# Altium footprint library PCB11.PcbLib: 29 footprints (part 1 of 2)
Each footprint in its own frame and in the unit in brackets; x right, y up, seen from the top. Pads: shape width x height; smd on the part's side, far side on the other; paste and mask are expansions set on the pad; w line width, h text height; cw(c..) or ccw(c..) is an arc to the next point about the centre after c.
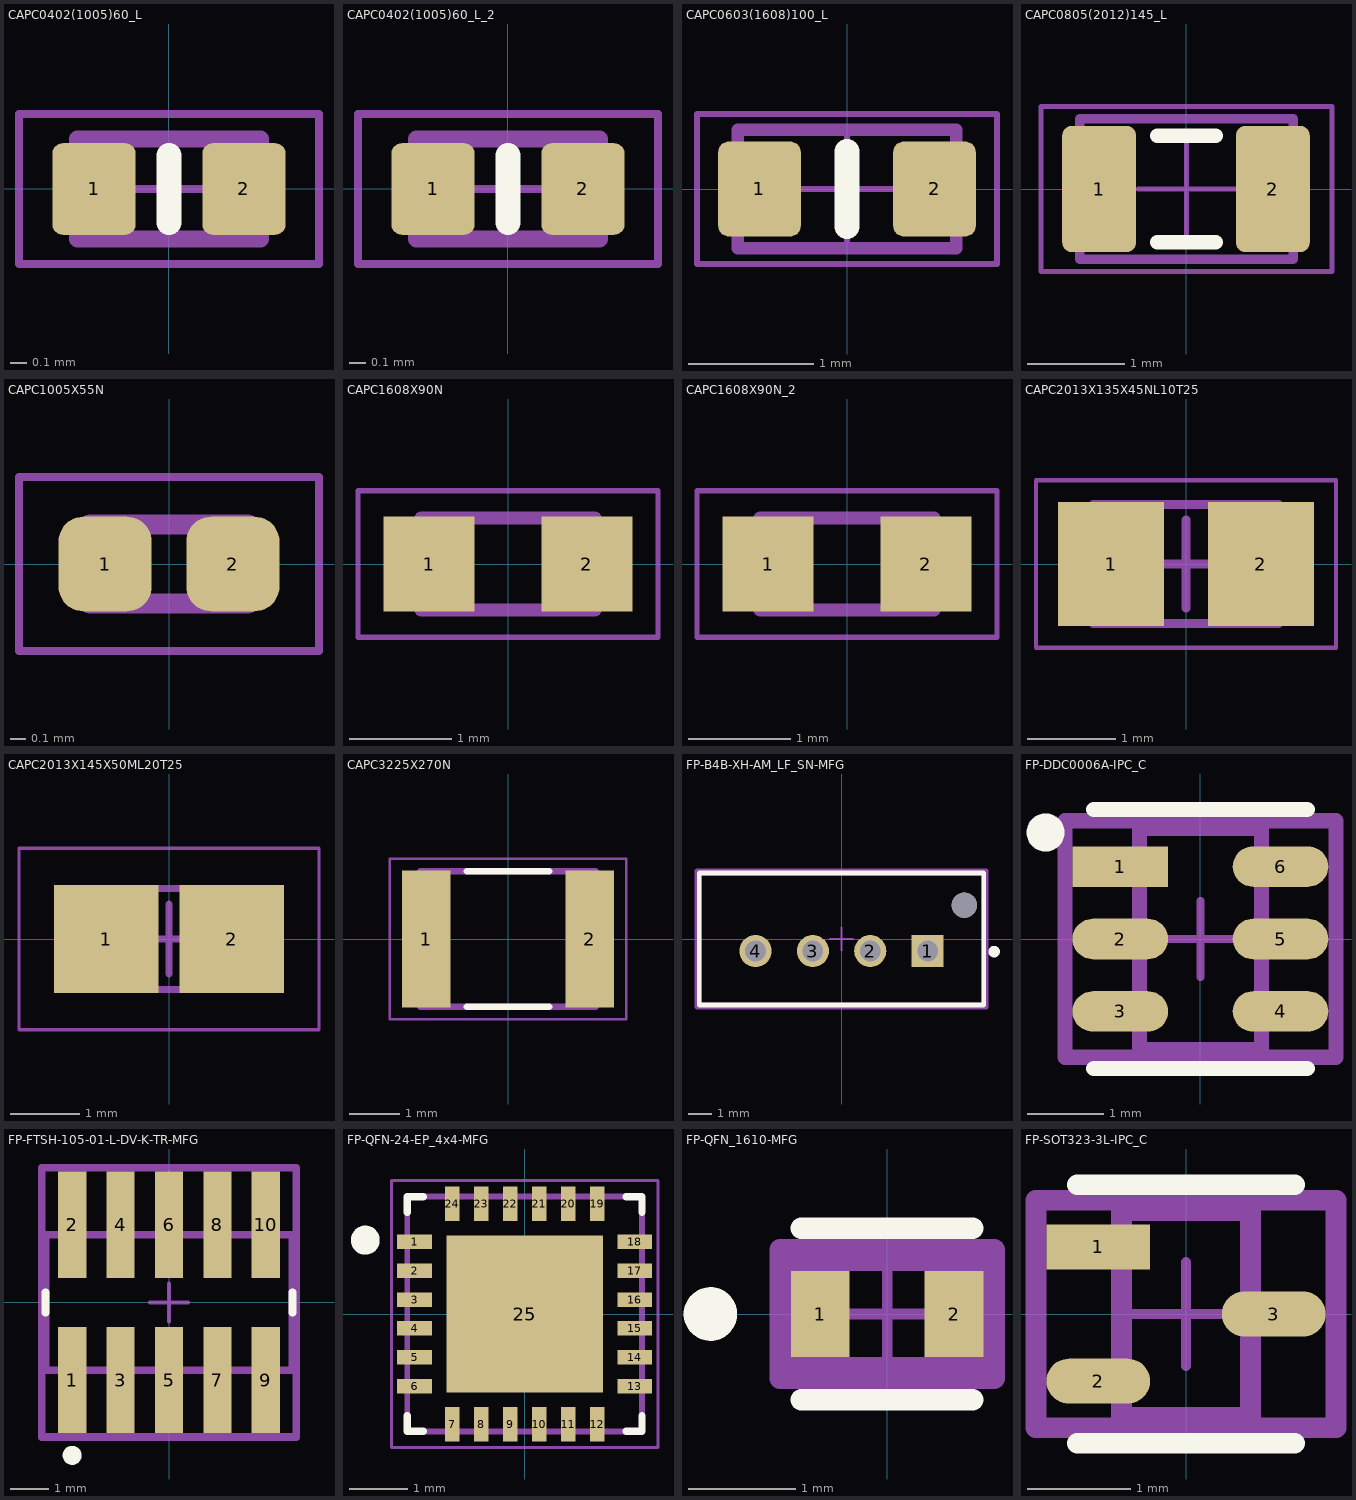
[diagram p0: the footprints below, top view; thin cyan lines are the x and y axes]

## CAPC0402(1005)60_L [mm] "Chip Capacitor, Body 1.0x0.5mm, Height 0.6mm, IPC High Density"
height 0.6
pads (2):
  rrect25% 0.5x0.55 smd: 1(-0.45,0) 2(0.45,0)
Top Overlay:
  lines w0.15: 0,-0.2 0,0.2
Top Assembly:
  lines w0.1: -0.55,-0.3 -0.55,0.3 0.55,0.3 0.55,-0.3 -0.55,-0.3
Top Courtyard:
  lines w0.05: -0.275,0 0.275,0 ; 0,-0.275 0,0.275 ; -0.9,-0.45 0.9,-0.45 0.9,0.45 -0.9,0.45 -0.9,-0.45
Top Designator:
  text ".Designator" at -1.27,-0.127 h0.6
3D body "CAPC1005X60N EIA 0402.STEP": height 0.6, standoff 0, extent -0.5,-0.25 0.5,0.25

## CAPC0402(1005)60_L_2 [mm]
pads (2):
  rrect25% 0.5x0.55 smd: 1(-0.45,0) 2(0.45,0)
Top Overlay:
  lines w0.15: 0,-0.2 0,0.2
Top Assembly:
  lines w0.1: -0.55,-0.3 0.55,-0.3 0.55,0.3 -0.55,0.3 -0.55,-0.3
Top Courtyard:
  lines w0.05: -0.275,0 0.275,0 ; 0,-0.275 0,0.275 ; -0.9,-0.45 -0.9,0.45 0.9,0.45 0.9,-0.45 -0.9,-0.45
Top Designator:
  text ".Designator" at -1.27,-0.127 h0.6
3D body "CAPC1005X60N EIA 0402.STEP": height 0.6, standoff 0, extent -0.5,-0.25 0.5,0.25

## CAPC0603(1608)100_L [mm] "Chip Capacitor, Body 1.6x0.8mm, Height 1.0mm, IPC High Density"
height 1
pads (2):
  rrect25% 0.66x0.76 smd: 1(-0.7,0) 2(0.7,0)
Top Overlay:
  lines w0.2: 0,-0.3 0,0.3
Top Assembly:
  lines w0.1: -0.875,-0.475 0.875,-0.475 0.875,0.475 -0.875,0.475 -0.875,-0.475
Top Courtyard:
  lines w0.05: -0.475,0 0.475,0 ; 0,-0.475 0,0.475 ; -1.2,-0.6 -1.2,0.6 1.2,0.6 1.2,-0.6 -1.2,-0.6
Top Designator:
  text ".Designator" at -1.27,-0.127 h0.6
3D body "CAPC1608X95N EIA 0603.STEP": height 0.95, standoff 0, extent -0.8,-0.4 0.8,0.4

## CAPC0805(2012)145_L [mm] "Chip Capacitor, Body 2.0x1.2mm, Height 1.45mm, IPC High Density"
height 1.45
pads (2):
  rrect25% 0.76x1.3 smd: 1(-0.9,0) 2(0.89,0)
Top Overlay:
  lines w0.15: -0.3,-0.55 0.3,-0.55 ; -0.3,0.55 0.3,0.55
Top Assembly:
  lines w0.1: -1.1,-0.725 -1.1,0.725 1.1,0.725 1.1,-0.725 -1.1,-0.725
Top Courtyard:
  lines w0.05: -0.5,0 0.5,0 ; 0,-0.5 0,0.5 ; -1.5,-0.85 1.5,-0.85 1.5,0.85 -1.5,0.85 -1.5,-0.85
Top Designator:
  text ".Designator" at -1.27,-0.127 h0.6
3D body "CAPC2012X145N EIA 0805.STEP": height 1.45, standoff 0, extent -1,-0.6 1,0.6

## CAPC1005X55N [mm]
height 0.55
pads (2):
  rrect53% 0.59x0.6 smd: 1(-0.405,0) 2(0.405,0)
Top 3D Body:
  lines w0.127: -0.5,-0.25 -0.5,0.25 0.5,0.25 0.5,-0.25 -0.5,-0.25
Mechanical 15:
  lines w0.05: -0.95,-0.55 -0.95,0.55 0.95,0.55 0.95,-0.55 -0.95,-0.55
3D body "step_temp.STEP": height 0.55, standoff 0, extent -0.5,-0.25 0.5,0.25

## CAPC1608X90N [mm]
pads (2):
  rect 0.89x0.93 smd: 1(-0.77,0) 2(0.77,0)
Top 3D Body:
  lines w0.127: -0.85,-0.45 -0.85,0.45 0.85,0.45 0.85,-0.45 -0.85,-0.45
Mechanical 15:
  lines w0.05: -1.465,-0.715 -1.465,0.715 1.465,0.715 1.465,-0.715 -1.465,-0.715
3D body "step_temp.STEP": height 0.9, standoff 0, extent -0.8,-0.4 0.8,0.4

## CAPC1608X90N_2 [mm]
pads (2):
  rect 0.89x0.93 smd: 1(-0.77,0) 2(0.77,0)
Top 3D Body:
  lines w0.127: -0.85,-0.45 0.85,-0.45 0.85,0.45 -0.85,0.45 -0.85,-0.45
Mechanical 15:
  lines w0.05: -1.465,-0.715 1.465,-0.715 1.465,0.715 -1.465,0.715 -1.465,-0.715
3D body "step_temp.STEP": height 0.9, standoff 0, extent -0.8,-0.4 0.8,0.4

## CAPC2013X135X45NL10T25 [mm] "Chip Capacitor, 2-Leads, Body 2.10x1.35mm, IPC Medium Density"
height 1.35
pads (2):
  rect 1.2x1.4 smd: 1(-0.85,0) 2(0.85,0)
Top 3D Body:
  lines w0.1: -1.05,-0.675 -1.05,0.675 1.05,0.675 1.05,-0.675 -1.05,-0.675
Mechanical 15:
  lines w0.05: -1.7,-0.95 -1.7,0.95 1.7,0.95 1.7,-0.95 -1.7,-0.95
  lines w0.1: -0.5,0 0.5,0 ; 0,-0.5 0,0.5
3D body "CAPC2012X14N.step": height 1.35, standoff 0, extent -1.05,-0.675 1.05,0.675

## CAPC2013X145X50ML20T25 [mm] "Chip Capacitor, 2-Leads, Body 2.2x1.45mm, IPC Low Density"
height 1.45
pads (2):
  rect 1.5x1.55 smd: 1(-0.9,0) 2(0.9,0)
Top 3D Body:
  lines w0.1: -1.1,-0.725 -1.1,0.725 1.1,0.725 1.1,-0.725 -1.1,-0.725
Mechanical 15:
  lines w0.05: -2.15,-1.3 -2.15,1.3 2.15,1.3 2.15,-1.3 -2.15,-1.3
  lines w0.1: -0.5,0 0.5,0 ; 0,-0.5 0,0.5
3D body "CAPC2012X14L.step": height 1.45, standoff 0, extent -1.1,-0.725 1.1,0.725

## CAPC3225X270N [mm]
pads (2):
  rect 0.96x2.72 smd: 1(-1.625,0) 2(1.625,0)
Top Overlay:
  lines w0.127: -0.82,-1.35 0.82,-1.35 ; -0.82,1.35 0.82,1.35
Top 3D Body:
  lines w0.127: -1.75,-1.35 1.75,-1.35 1.75,1.35 -1.75,1.35 -1.75,-1.35
Mechanical 15:
  lines w0.05: -2.355,-1.6 2.355,-1.6 2.355,1.6 -2.355,1.6 -2.355,-1.6
3D body "step_temp.STEP": height 2.7, standoff 0, extent -1.6,-1.25 1.6,1.25

## FP-B4B-XH-AM_LF_SN-MFG [mm]
pads (5):
  rect 1.4x1.4 hole 0.9 paste-2539.97 mask+0: 1(3.75,-0.525)
  round 1.4 hole 0.9 paste-2539.97 mask+0: 2(1.25,-0.525) 3(-1.25,-0.525) 4(-3.75,-0.525)
  round 1.1 hole 1.1 unplated paste-2539.97 mask+0: ""(5.35,1.475)
Top Overlay:
  circle w0.25: c6.65,-0.55 r0.125
  lines w0.2: -6.2,-2.875 -6.2,2.875 6.2,2.875 6.2,-2.875 -6.2,-2.875
Top Assembly:
  lines w0.2: -6.3,-2.975 -6.3,2.975 6.3,2.975 6.3,-2.975 -6.3,-2.975
  text ".Designator" at 0,0.187 h1
Top Courtyard:
  lines w0.2: -6.3,-2.975 -6.3,2.975 6.3,2.975 6.3,-2.975 -6.3,-2.975
Top 3D Body:
  lines w0.2: -6.2,-2.875 -6.2,2.875 6.2,2.875 6.2,-2.875 -6.2,-2.875
Top Component Center:
  lines w0.1: -0.5,0 0.5,0 ; 0,-0.5 0,0.5
3D body "Conn_JST_B4B-XH-AM_LF_SN_eec.STEP": height 0.25, standoff 0, extent -6.3,-2.975 6.3,2.975

## FP-DDC0006A-IPC_C [mm]
pads (6):
  rect 1.254x0.532 smd paste+0 mask+0: 1(-1.05,0.95)
  rrect100% 1.254x0.532 smd paste+0 mask+0: 2(-1.05,0) 3(-1.05,-0.95) 4(1.05,-0.95) 5(1.05,0) 6(1.05,0.95)
Top Overlay:
  circle w0.25: c-2.032,1.397 r0.125
  lines w0.2: -1.4,-1.7 1.4,-1.7 ; -1.4,1.7 1.4,1.7
Top Assembly:
  lines w0.2: -1.777,-1.55 -1.777,1.55 1.777,1.55 1.777,-1.55 -1.777,-1.55
  text ".Designator" at 0,0.188 h1
Top Courtyard:
  lines w0.2: -1.777,-1.55 -1.777,1.55 1.777,1.55 1.777,-1.55 -1.777,-1.55
Top 3D Body:
  lines w0.2: -0.8,-1.45 -0.8,1.45 0.8,1.45 0.8,-1.45 -0.8,-1.45
Top Component Center:
  lines w0.1: -0.5,0 0.5,0 ; 0,-0.5 0,0.5
3D body "IC_Texas_Instruments_TPS562201DDCT_eec.STEP": height 0.25, standoff 0, extent -1.777,-1.55 1.777,1.55

## FP-FTSH-105-01-L-DV-K-TR-MFG [mm]
pads (10):
  rect 0.74x2.79 smd paste+0 mask+0: 1(-2.54,-2.035) 2(-2.54,2.035) 3(-1.27,-2.035) 4(-1.27,2.035) 5(0,-2.035) 6(0,2.035) 7(1.27,-2.035) 8(1.27,2.035) 9(2.54,-2.035) 10(2.54,2.035)
Top Overlay:
  circle w0.25: c-2.54,-4.01 r0.125
  lines w0.2: -3.24,-0.265 -3.24,0.265 ; 3.24,-0.265 3.24,0.265
Top Assembly:
  lines w0.2: -3.34,-3.53 3.34,-3.53 3.34,3.53 -3.34,3.53 -3.34,-3.53
  text ".Designator" at 0,-0.001 h1
Top Courtyard:
  lines w0.2: -3.34,-3.53 3.34,-3.53 3.34,3.53 -3.34,3.53 -3.34,-3.53
Top 3D Body:
  lines w0.2: -3.24,-1.78 3.24,-1.78 3.24,1.78 -3.24,1.78 -3.24,-1.78
Top Component Center:
  lines w0.1: -0.5,0 0.5,0 ; 0,-0.5 0,0.5
3D body "Conn_Samtec_FTSH-105-01-L-DV-K-TR_eec.STEP": height 0.25, standoff 0, extent -3.34,-3.53 3.34,3.53

## FP-QFN-24-EP_4x4-MFG [mm]
pads (25):
  rect 0.6x0.25 smd paste+0 mask+0: 1(-1.9,1.25) 2(-1.9,0.75) 3(-1.9,0.25) 4(-1.9,-0.25) 5(-1.9,-0.75) 6(-1.9,-1.25) 13(1.9,-1.25) 14(1.9,-0.75) 15(1.9,-0.25) 16(1.9,0.25) 17(1.9,0.75) 18(1.9,1.25)
  rect 0.25x0.6 smd paste+0 mask+0: 7(-1.25,-1.9) 8(-0.75,-1.9) 9(-0.25,-1.9) 10(0.25,-1.9) 11(0.75,-1.9) 12(1.25,-1.9) 19(1.25,1.9) 20(0.75,1.9) 21(0.25,1.9) 22(-0.25,1.9) 23(-0.75,1.9) 24(-1.25,1.9)
  rect 2.7x2.7 smd paste+0 mask+0: 25(0,0)
Top Overlay:
  circle w0.25: c-2.75,1.275 r0.125
  lines w0.127: -2.025,-1.75 -2.025,-2.025 -1.75,-2.025 ; -2.025,1.75 -2.025,2.025 -1.75,2.025 ; 1.75,-2.025 2.025,-2.025 2.025,-1.75 ; 1.75,2.025 2.025,2.025 2.025,1.75
Top Assembly:
  lines w0.1: -2.025,-2.025 2.025,-2.025 2.025,2.025 -2.025,2.025 -2.025,-2.025
  text ".Designator" at 0,0.187 h1
Top Courtyard:
  lines w0.05: -2.3,-2.3 2.3,-2.3 2.3,2.3 -2.3,2.3 -2.3,-2.3
Top Component Center:
  lines w0.1: -0.5,0 0.5,0 ; 0,-0.5 0,0.5
3D body "IC_STMicroelectronics_STUSB4500QTR_eec.STEP": height 0.25, standoff 0, extent -2.3,-2.3 2.3,2.3

## FP-QFN_1610-MFG [mm]
pads (2):
  rect 0.55x0.8 smd paste-1000 mask+0: 1(-0.625,0) 2(0.625,0)
Top Overlay:
  circle w0.25: c-1.65,0 r0.125
  lines w0.2: -0.8,-0.8 0.8,-0.8 ; -0.8,0.8 0.8,0.8
Top Paste:
  rectangle: 0.365,-0.38 0.885,0.38
  rectangle: -0.885,-0.38 -0.365,0.38
Top Assembly:
  lines w0.2: -1,-0.6 1,-0.6 1,0.6 -1,0.6 -1,-0.6
  text ".Designator" at 0,0.187 h1
Top Courtyard:
  lines w0.2: -1,-0.6 1,-0.6 1,0.6 -1,0.6 -1,-0.6
Top 3D Body:
  lines w0.2: -0.8,-0.5 0.8,-0.5 0.8,0.5 -0.8,0.5 -0.8,-0.5
Top Component Center:
  lines w0.1: -0.5,0 0.5,0 ; 0,-0.5 0,0.5
3D body "Diode_STMicroelectronics_ESDA25P35-1U1M_eec.STEP": height 0.25, standoff 0, extent -1,-0.6 1,0.6

## FP-SOT323-3L-IPC_C [mm]
pads (3):
  rect 1.004x0.436 smd paste+0 mask+0: 1(-0.85,0.65)
  rrect100% 1.004x0.436 smd paste+0 mask+0: 2(-0.85,-0.65) 3(0.85,0)
Top Overlay:
  lines w0.2: -1.05,-1.25 1.05,-1.25 ; -1.05,1.25 1.05,1.25
Top Assembly:
  lines w0.2: -1.452,-1.1 1.452,-1.1 1.452,1.1 -1.452,1.1 -1.452,-1.1
  text ".Designator" at 0,-0.001 h1
Top Courtyard:
  lines w0.2: -1.452,-1.1 1.452,-1.1 1.452,1.1 -1.452,1.1 -1.452,-1.1
Top 3D Body:
  lines w0.2: -0.625,-1 0.625,-1 0.625,1 -0.625,1 -0.625,-1
Top Component Center:
  lines w0.1: -0.5,0 0.5,0 ; 0,-0.5 0,0.5
3D body "Diode_STMicroelectronics_ESDCAN02-2BWY_eec.STEP": height 0.25, standoff 0, extent -1.452,-1.1 1.452,1.1